# Altium schematic symbol library CLF10040T100MD.SchLib: 1 symbol
Pins are listed as number, name and electrical type; pins without a type are passive.

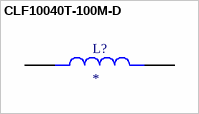
[diagram p0: symbol CLF10040T-100M-D]

## CLF10040T-100M-D
designator L?
MP: CLF10040T-100M-D; MF: {'manufacturer': u'TDK'}; Package: None; Availability: Unavailable; Price: None; Value: *
footprint IND_CLF10040T-100M-D
pins: 1, 2